# Altium integrated library WA-SMST_rev15a.intlib: 29 symbols
Pins are listed as number, name and electrical type; pins without a type are passive.

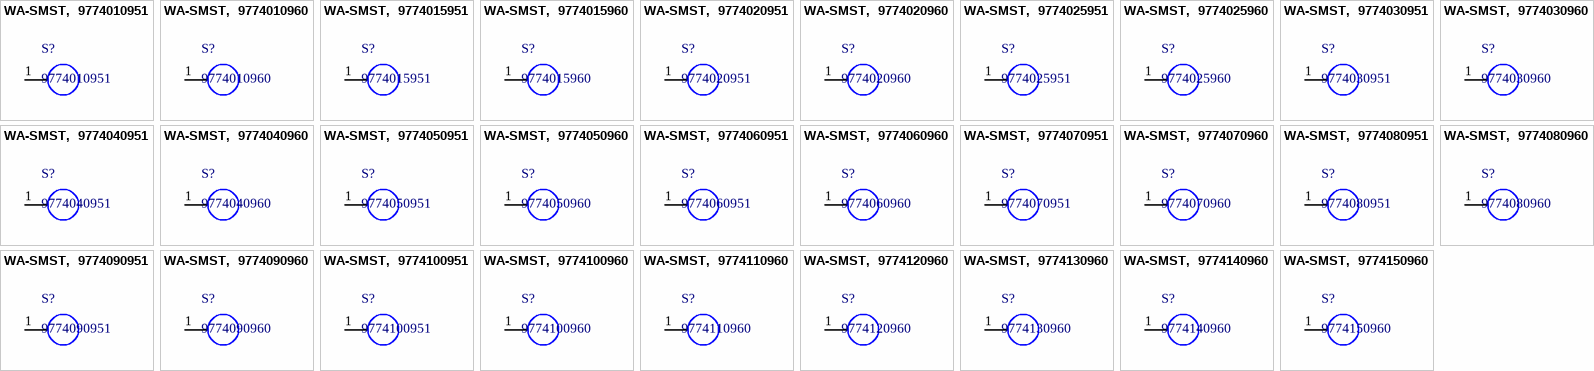
[diagram p0: symbols WA-SMST,  9774010951 to WA-SMST,  9774150960]

## WA-SMST,  9774010951
designator S?, comment 9774010951
WA-SMST SMD Steel Spacer no Thread; Manufacturer: Wurth Elektronik; partNo: 9774010951; ComponentLink1Description: Manufacturer; ComponentLink1URL: http://www.we-online.de; Created by: Baojun Chen; Created Date: 20.Oct.2015; ComponentLink2Description: Datasheet; ComponentLink2URL: http://katalog.we-online.de/em/datasheet/9774010951.pdf
footprint 9774010951 (SMD Steel Spacer no Thread)
pins: 1

## WA-SMST,  9774010960
designator S?, comment 9774010960
WA-SMST SMD Steel Spacer no Thread; Manufacturer: Wurth Elektronik; partNo: 9774010960; ComponentLink1Description: Manufacturer; ComponentLink1URL: http://www.we-online.de; Created by: Baojun Chen; Created Date: 20.Oct.2015; ComponentLink2Description: Datasheet; ComponentLink2URL: http://katalog.we-online.de/em/datasheet/9774010960.pdf
footprint 9774010960 (SMD Steel Spacer no Thread)
pins: 1

## WA-SMST,  9774015951
designator S?, comment 9774015951
WA-SMST SMD Steel Spacer no Thread; Manufacturer: Wurth Elektronik; partNo: 9774015951; ComponentLink1Description: Manufacturer; ComponentLink1URL: http://www.we-online.de; Created by: Baojun Chen; Created Date: 20.Oct.2015; ComponentLink2Description: Datasheet; ComponentLink2URL: http://katalog.we-online.de/em/datasheet/9774015951.pdf
footprint 9774015951 (SMD Steel Spacer no Thread)
pins: 1

## WA-SMST,  9774015960
designator S?, comment 9774015960
WA-SMST SMD Steel Spacer no Thread; Manufacturer: Wurth Elektronik; partNo: 9774015960; ComponentLink1Description: Manufacturer; ComponentLink1URL: http://www.we-online.de; Created by: Baojun Chen; Created Date: 20.Oct.2015; ComponentLink2Description: Datasheet; ComponentLink2URL: http://katalog.we-online.de/em/datasheet/9774015960.pdf
footprint 9774015960 (SMD Steel Spacer no Thread)
pins: 1

## WA-SMST,  9774020951
designator S?, comment 9774020951
WA-SMST SMD Steel Spacer no Thread; Manufacturer: Wurth Elektronik; partNo: 9774020951; ComponentLink1Description: Manufacturer; ComponentLink1URL: http://www.we-online.de; Created by: Baojun Chen; Created Date: 20.Oct.2015; ComponentLink2Description: Datasheet; ComponentLink2URL: http://katalog.we-online.de/em/datasheet/9774020951.pdf
footprint 9774020951 (SMD Steel Spacer no Thread)
pins: 1

## WA-SMST,  9774020960
designator S?, comment 9774020960
WA-SMST SMD Steel Spacer no Thread; Manufacturer: Wurth Elektronik; partNo: 9774020960; ComponentLink1Description: Manufacturer; ComponentLink1URL: http://www.we-online.de; Created by: Baojun Chen; Created Date: 20.Oct.2015; ComponentLink2Description: Datasheet; ComponentLink2URL: http://katalog.we-online.de/em/datasheet/9774020960.pdf
footprint 9774020960 (SMD Steel Spacer no Thread)
pins: 1

## WA-SMST,  9774025951
designator S?, comment 9774025951
WA-SMST SMD Steel Spacer no Thread; Manufacturer: Wurth Elektronik; partNo: 9774025951; ComponentLink1Description: Manufacturer; ComponentLink1URL: http://www.we-online.de; Created by: Baojun Chen; Created Date: 20.Oct.2015; ComponentLink2Description: Datasheet; ComponentLink2URL: http://katalog.we-online.de/em/datasheet/9774025951.pdf
footprint 9774025951 (SMD Steel Spacer no Thread)
pins: 1

## WA-SMST,  9774025960
designator S?, comment 9774025960
WA-SMST SMD Steel Spacer no Thread; Manufacturer: Wurth Elektronik; partNo: 9774025960; ComponentLink1Description: Manufacturer; ComponentLink1URL: http://www.we-online.de; Created by: Baojun Chen; Created Date: 20.Oct.2015; ComponentLink2Description: Datasheet; ComponentLink2URL: http://katalog.we-online.de/em/datasheet/9774025960.pdf
footprint 9774025960 (SMD Steel Spacer no Thread)
pins: 1

## WA-SMST,  9774030951
designator S?, comment 9774030951
WA-SMST SMD Steel Spacer no Thread; Manufacturer: Wurth Elektronik; partNo: 9774030951; ComponentLink1Description: Manufacturer; ComponentLink1URL: http://www.we-online.de; Created by: Baojun Chen; Created Date: 20.Oct.2015; ComponentLink2Description: Datasheet; ComponentLink2URL: http://katalog.we-online.de/em/datasheet/9774030951.pdf
footprint 9774030951 (SMD Steel Spacer no Thread)
pins: 1

## WA-SMST,  9774030960
designator S?, comment 9774030960
WA-SMST SMD Steel Spacer no Thread; Manufacturer: Wurth Elektronik; partNo: 9774030960; ComponentLink1Description: Manufacturer; ComponentLink1URL: http://www.we-online.de; Created by: Baojun Chen; Created Date: 20.Oct.2015; ComponentLink2Description: Datasheet; ComponentLink2URL: http://katalog.we-online.de/em/datasheet/9774030960.pdf
footprint 9774030960 (SMD Steel Spacer no Thread)
pins: 1

## WA-SMST,  9774040951
designator S?, comment 9774040951
WA-SMST SMD Steel Spacer no Thread; Manufacturer: Wurth Elektronik; partNo: 9774040951; ComponentLink1Description: Manufacturer; ComponentLink1URL: http://www.we-online.de; Created by: Baojun Chen; Created Date: 20.Oct.2015; ComponentLink2Description: Datasheet; ComponentLink2URL: http://katalog.we-online.de/em/datasheet/9774040951.pdf
footprint 9774040951 (SMD Steel Spacer no Thread)
pins: 1

## WA-SMST,  9774040960
designator S?, comment 9774040960
WA-SMST SMD Steel Spacer no Thread; Manufacturer: Wurth Elektronik; partNo: 9774040960; ComponentLink1Description: Manufacturer; ComponentLink1URL: http://www.we-online.de; Created by: Baojun Chen; Created Date: 20.Oct.2015; ComponentLink2Description: Datasheet; ComponentLink2URL: http://katalog.we-online.de/em/datasheet/9774040960.pdf
footprint 9774040960 (SMD Steel Spacer no Thread)
pins: 1

## WA-SMST,  9774050951
designator S?, comment 9774050951
WA-SMST SMD Steel Spacer no Thread; Manufacturer: Wurth Elektronik; partNo: 9774050951; ComponentLink1Description: Manufacturer; ComponentLink1URL: http://www.we-online.de; Created by: Baojun Chen; Created Date: 20.Oct.2015; ComponentLink2Description: Datasheet; ComponentLink2URL: http://katalog.we-online.de/em/datasheet/9774050951.pdf
footprint 9774050951 (SMD Steel Spacer no Thread)
pins: 1

## WA-SMST,  9774050960
designator S?, comment 9774050960
WA-SMST SMD Steel Spacer no Thread; Manufacturer: Wurth Elektronik; partNo: 9774050960; ComponentLink1Description: Manufacturer; ComponentLink1URL: http://www.we-online.de; Created by: Baojun Chen; Created Date: 20.Oct.2015; ComponentLink2Description: Datasheet; ComponentLink2URL: http://katalog.we-online.de/em/datasheet/9774050960.pdf
footprint 9774050960 (SMD Steel Spacer no Thread)
pins: 1

## WA-SMST,  9774060951
designator S?, comment 9774060951
WA-SMST SMD Steel Spacer no Thread; Manufacturer: Wurth Elektronik; partNo: 9774060951; ComponentLink1Description: Manufacturer; ComponentLink1URL: http://www.we-online.de; Created by: Baojun Chen; Created Date: 20.Oct.2015; ComponentLink2Description: Datasheet; ComponentLink2URL: http://katalog.we-online.de/em/datasheet/9774060951.pdf
footprint 9774060951 (SMD Steel Spacer no Thread)
pins: 1

## WA-SMST,  9774060960
designator S?, comment 9774060960
WA-SMST SMD Steel Spacer no Thread; Manufacturer: Wurth Elektronik; partNo: 9774060960; ComponentLink1Description: Manufacturer; ComponentLink1URL: http://www.we-online.de; Created by: Baojun Chen; Created Date: 20.Oct.2015; ComponentLink2Description: Datasheet; ComponentLink2URL: http://katalog.we-online.de/em/datasheet/9774060960.pdf
footprint 9774060960 (SMD Steel Spacer no Thread)
pins: 1

## WA-SMST,  9774070951
designator S?, comment 9774070951
WA-SMST SMD Steel Spacer no Thread; Manufacturer: Wurth Elektronik; partNo: 9774070951; ComponentLink1Description: Manufacturer; ComponentLink1URL: http://www.we-online.de; Created by: Baojun Chen; Created Date: 20.Oct.2015; ComponentLink2Description: Datasheet; ComponentLink2URL: http://katalog.we-online.de/em/datasheet/9774070951.pdf
footprint 9774070951 (SMD Steel Spacer no Thread)
pins: 1

## WA-SMST,  9774070960
designator S?, comment 9774070960
WA-SMST SMD Steel Spacer no Thread; Manufacturer: Wurth Elektronik; partNo: 9774070960; ComponentLink1Description: Manufacturer; ComponentLink1URL: http://www.we-online.de; Created by: Baojun Chen; Created Date: 20.Oct.2015; ComponentLink2Description: Datasheet; ComponentLink2URL: http://katalog.we-online.de/em/datasheet/9774070960.pdf
footprint 9774070960 (SMD Steel Spacer no Thread)
pins: 1

## WA-SMST,  9774080951
designator S?, comment 9774080951
WA-SMST SMD Steel Spacer no Thread; Manufacturer: Wurth Elektronik; partNo: 9774080951; ComponentLink1Description: Manufacturer; ComponentLink1URL: http://www.we-online.de; Created by: Baojun Chen; Created Date: 20.Oct.2015; ComponentLink2Description: Datasheet; ComponentLink2URL: http://katalog.we-online.de/em/datasheet/9774080951.pdf
footprint 9774080951 (SMD Steel Spacer no Thread)
pins: 1

## WA-SMST,  9774080960
designator S?, comment 9774080960
WA-SMST SMD Steel Spacer no Thread; Manufacturer: Wurth Elektronik; partNo: 9774080960; ComponentLink1Description: Manufacturer; ComponentLink1URL: http://www.we-online.de; Created by: Baojun Chen; Created Date: 20.Oct.2015; ComponentLink2Description: Datasheet; ComponentLink2URL: http://katalog.we-online.de/em/datasheet/9774080960.pdf
footprint 9774080960 (SMD Steel Spacer no Thread)
pins: 1

## WA-SMST,  9774090951
designator S?, comment 9774090951
WA-SMST SMD Steel Spacer no Thread; Manufacturer: Wurth Elektronik; partNo: 9774090951; ComponentLink1Description: Manufacturer; ComponentLink1URL: http://www.we-online.de; Created by: Baojun Chen; Created Date: 20.Oct.2015; ComponentLink2Description: Datasheet; ComponentLink2URL: http://katalog.we-online.de/em/datasheet/9774090951.pdf
footprint 9774090951 (SMD Steel Spacer no Thread)
pins: 1

## WA-SMST,  9774090960
designator S?, comment 9774090960
WA-SMST SMD Steel Spacer no Thread; Manufacturer: Wurth Elektronik; partNo: 9774090960; ComponentLink1Description: Manufacturer; ComponentLink1URL: http://www.we-online.de; Created by: Baojun Chen; Created Date: 20.Oct.2015; ComponentLink2Description: Datasheet; ComponentLink2URL: http://katalog.we-online.de/em/datasheet/9774090960.pdf
footprint 9774090960 (SMD Steel Spacer no Thread)
pins: 1

## WA-SMST,  9774100951
designator S?, comment 9774100951
WA-SMST SMD Steel Spacer no Thread; Manufacturer: Wurth Elektronik; partNo: 9774100951; ComponentLink1Description: Manufacturer; ComponentLink1URL: http://www.we-online.de; Created by: Baojun Chen; Created Date: 20.Oct.2015; ComponentLink2Description: Datasheet; ComponentLink2URL: http://katalog.we-online.de/em/datasheet/9774100951.pdf
footprint 9774100951 (SMD Steel Spacer no Thread)
pins: 1

## WA-SMST,  9774100960
designator S?, comment 9774100960
WA-SMST SMD Steel Spacer no Thread; Manufacturer: Wurth Elektronik; partNo: 9774100960; ComponentLink1Description: Manufacturer; ComponentLink1URL: http://www.we-online.de; Created by: Baojun Chen; Created Date: 20.Oct.2015; ComponentLink2Description: Datasheet; ComponentLink2URL: http://katalog.we-online.de/em/datasheet/9774100960.pdf
footprint 9774100960 (SMD Steel Spacer no Thread)
pins: 1

## WA-SMST,  9774110960
designator S?, comment 9774110960
WA-SMST SMD Steel Spacer no Thread; Manufacturer: Wurth Elektronik; partNo: 9774110960; ComponentLink1Description: Manufacturer; ComponentLink1URL: http://www.we-online.de; Created by: Baojun Chen; Created Date: 20.Oct.2015; ComponentLink2Description: Datasheet; ComponentLink2URL: http://katalog.we-online.de/em/datasheet/9774110960.pdf
footprint 9774110960 (SMD Steel Spacer no Thread)
pins: 1

## WA-SMST,  9774120960
designator S?, comment 9774120960
WA-SMST SMD Steel Spacer no Thread; Manufacturer: Wurth Elektronik; partNo: 9774120960; ComponentLink1Description: Manufacturer; ComponentLink1URL: http://www.we-online.de; Created by: Baojun Chen; Created Date: 20.Oct.2015; ComponentLink2Description: Datasheet; ComponentLink2URL: http://katalog.we-online.de/em/datasheet/9774120960.pdf
footprint 9774120960 (SMD Steel Spacer no Thread)
pins: 1

## WA-SMST,  9774130960
designator S?, comment 9774130960
WA-SMST SMD Steel Spacer no Thread; Manufacturer: Wurth Elektronik; partNo: 9774130960; ComponentLink1Description: Manufacturer; ComponentLink1URL: http://www.we-online.de; Created by: Baojun Chen; Created Date: 20.Oct.2015; ComponentLink2Description: Datasheet; ComponentLink2URL: http://katalog.we-online.de/em/datasheet/9774130960.pdf
footprint 9774130960 (SMD Steel Spacer no Thread)
pins: 1

## WA-SMST,  9774140960
designator S?, comment 9774140960
WA-SMST SMD Steel Spacer no Thread; Manufacturer: Wurth Elektronik; partNo: 9774140960; ComponentLink1Description: Manufacturer; ComponentLink1URL: http://www.we-online.de; Created by: Baojun Chen; Created Date: 20.Oct.2015; ComponentLink2Description: Datasheet; ComponentLink2URL: http://katalog.we-online.de/em/datasheet/9774140960.pdf
footprint 9774140960 (SMD Steel Spacer no Thread)
pins: 1

## WA-SMST,  9774150960
designator S?, comment 9774150960
WA-SMST SMD Steel Spacer no Thread; Manufacturer: Wurth Elektronik; partNo: 9774150960; ComponentLink1Description: Manufacturer; ComponentLink1URL: http://www.we-online.de; Created by: Baojun Chen; Created Date: 20.Oct.2015; ComponentLink2Description: Datasheet; ComponentLink2URL: http://katalog.we-online.de/em/datasheet/9774150960.pdf
footprint 9774150960 (SMD Steel Spacer no Thread)
pins: 1